# Altium footprint library Qbot1.PcbLib: 27 footprints (part 2 of 2)
Each footprint in its own frame and in the unit in brackets; x right, y up, seen from the top. Pads: shape width x height; smd on the part's side, far side on the other; paste and mask are expansions set on the pad; w line width, h text height; cw(c..) or ccw(c..) is an arc to the next point about the centre after c.
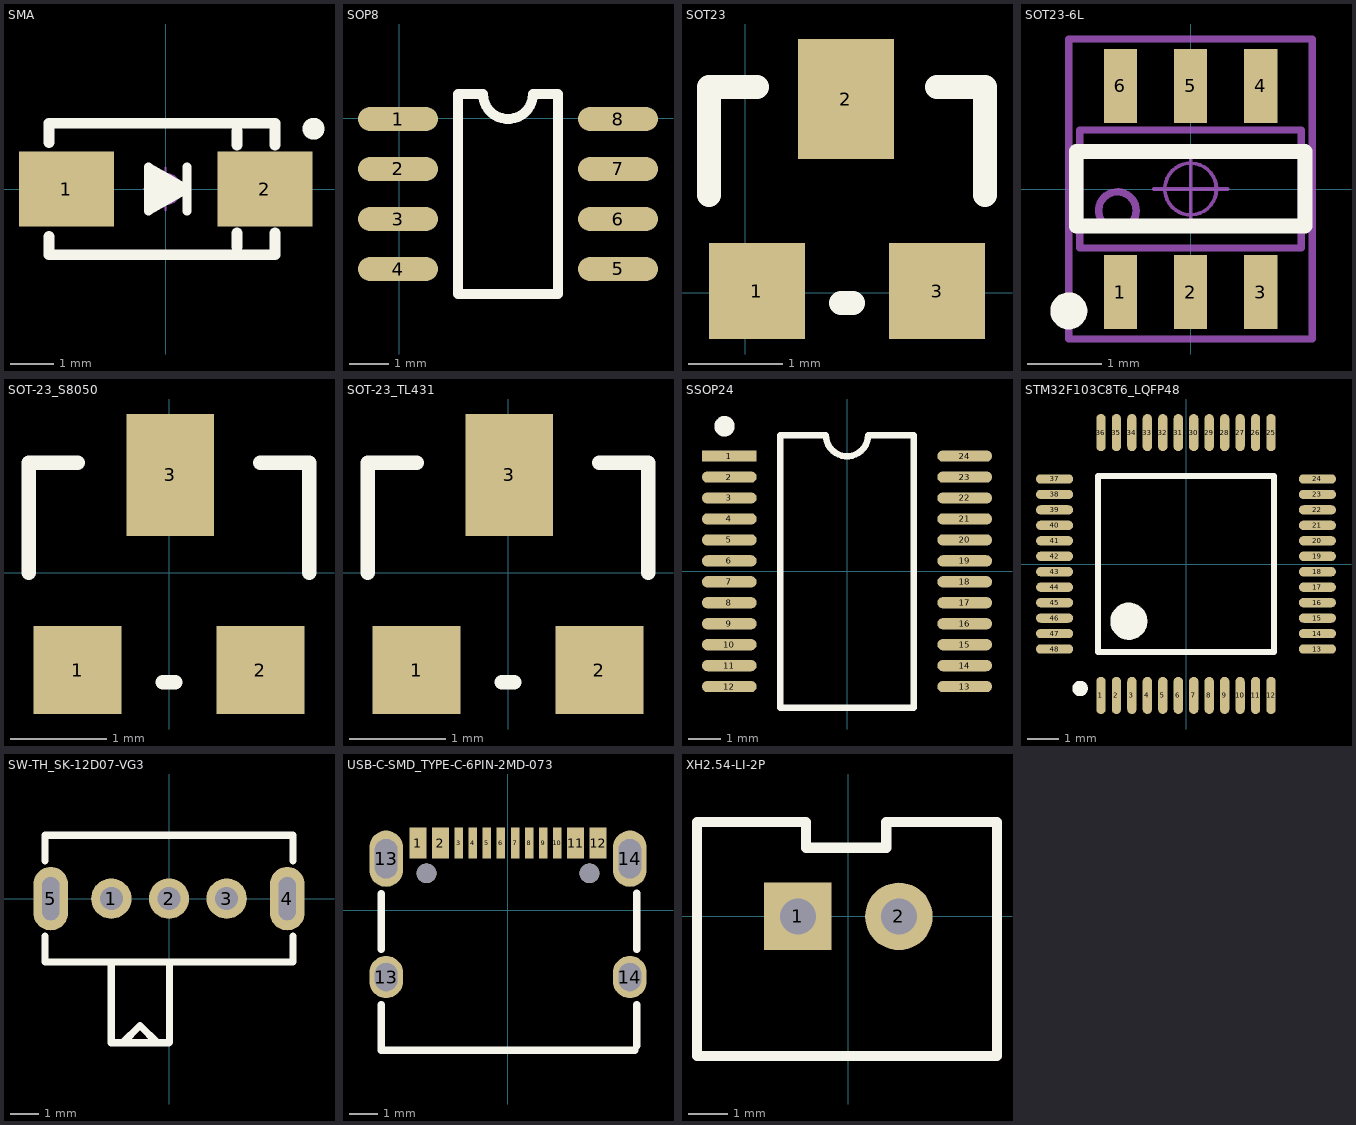
[diagram p1: the footprints below, top view; thin cyan lines are the x and y axes]

## SMA [mm] "4.5x2.6*2.2mm（长宽高，不包括引脚）"
height 2.54
pads (2):
  rect 2.2x1.75 smd: 1(-2.3,0) 2(2.3,0)
Top Overlay:
  circle w0.254: c3.429,1.397 r0.127
  lines w0.203: 0.494,-0.508 0.494,0.508 ; -0.395,-0.508 0.494,0 -0.395,0.508 -0.395,-0.508
  lines w0.254: -2.7,-1.105 -2.7,-1.524 2.54,-1.524 2.54,-1.016 ; -2.7,1.08 -2.7,1.524 2.54,1.524 2.54,1.016 ; -0.33,0.305 0.305,0 -0.254,-0.305 -0.254,0.051 0.023,0 ; 1.651,-1.35 1.651,-1.016 ; 1.651,1.016 1.651,1.35
Mechanical 15:
  circle w0.05: c0,0 r0.35
  lines w0.05: -0.5,0 0.5,0 ; 0,-0.5 0,0.5
3D body "SMA.STEP": height 2.15, standoff 0.04, extent -2.528,-1.3 2.575,1.3

## SOP8 [mil] "（蒜米工坊）"
height 19.68
pads (8):
  oval 80x24 smd: 1(-1,-1) 2(-1,-51) 3(-1,-101) 4(-1,-151) 5(219,-151) 6(219,-101) 7(219,-51) 8(219,-1)
Top Overlay:
  lines w10: 59,-176 159,-176 159,24 134,24 cw(c109,24) 84,24 59,24 59,-176
3D body "SOP8.STEP": height 62.99, standoff 0, extent -3.93,-173.82 233.94,23.82

## SOT23 [mil]
height 19.68
pads (3):
  rect 40x40 smd: 1(4.88,0.63) 3(79.88,0.63)
  rect 40x50 smd: 2(41.88,80.63)
Top Overlay:
  lines w10: -15.12,40.63 -15.12,85.63 4.88,85.63 ; 39.88,-4.37 44.88,-4.37 ; 79.88,85.63 99.88,85.63 99.88,40.63
3D body "SOT-23-3.STEP": height 47.24, standoff 0, extent -14.87,-11.02 99.3,99.22

## SOT23-6L [mm] "3x1.6x1.1mm(长宽高)"
height 1.45
pads (6):
  rect 0.45x1 smd: 1(-0.95,-1.397) 2(0,-1.397) 3(0.95,-1.397) 4(0.95,1.397) 5(0,1.397) 6(-0.95,1.397)
Top Overlay:
  circle w0.25: c-1.65,-1.651 r0.125
  lines w0.2: -1.55,-0.5 1.55,-0.5 1.55,0.508 -1.55,0.508 -1.55,-0.5
Mechanical 13:
  circle w0.1: c-0.992,-0.292 r0.254
  lines w0.1: -1.5,-0.8 -1.5,0.8 1.5,0.8 1.5,-0.8 -1.5,-0.8
Mechanical 15:
  circle w0.05: c0,0 r0.35
  lines w0.05: -0.5,0 0.5,0 ; 0,-0.5 0,0.5
  lines w0.1: -1.65,-2.032 -1.65,2.032 1.65,2.032 1.65,-2.032 -1.65,-2.032
3D body "SOT23-6.STEP": height 1.15, standoff -0.03, extent -1.5,-1.404 1.5,1.403

## SOT-23_S8050 [mil]
height 19.68
pads (3):
  rect 36x36 smd: 1(-37.5,-40) 2(37.5,-40)
  rect 36x50 smd: 3(0.5,40)
Top Overlay:
  lines w6: -57.5,0 -57.5,45 -37.5,45 ; -2.5,-45 2.5,-45 ; 37.5,45 57.5,45 57.5,0
3D body "sot23-s8050.stp": height 39.37, standoff 0, extent -57.08,-41.33 57.1,41.35

## SOT-23_TL431 [mil]
height 19.68
pads (3):
  rect 36x36 smd: 1(-37.5,-40) 2(37.5,-40)
  rect 36x50 smd: 3(0.5,40)
Top Overlay:
  lines w6: -57.5,0 -57.5,45 -37.5,45 ; -2.5,-45 2.5,-45 ; 37.5,45 57.5,45 57.5,0
3D body "sot23-tl431.stp": height 39.37, standoff 0, extent -57.08,-41.33 57.1,41.35

## SSOP24 [mm] "8.3*7.8*1.6（蒜米工坊）"
height 0.5
pads (24):
  rect 1.7x0.35 smd: 1(-3.65,3.575)
  oval 1.7x0.35 smd: 2(-3.65,2.925) 3(-3.65,2.275) 4(-3.65,1.625) 5(-3.65,0.975) 6(-3.65,0.325) 7(-3.65,-0.325) 8(-3.65,-0.975) 9(-3.65,-1.625) 10(-3.65,-2.275) 11(-3.65,-2.925) 12(-3.65,-3.575) 13(3.65,-3.575) 14(3.65,-2.925) 15(3.65,-2.275) 16(3.65,-1.625) 17(3.65,-0.975) 18(3.65,-0.325) 19(3.65,0.325) 20(3.65,0.975) 21(3.65,1.625) 22(3.65,2.275) 23(3.65,2.925) 24(3.65,3.575)
Top Overlay:
  circle w0.381: c-3.8,4.5 r0.127
  lines w0.2: -2.065,-4.225 2.065,-4.225 2.065,4.225 0.655,4.225 cw(c0,4.225) -0.655,4.225 -2.065,4.225 -2.065,-4.225
3D body "SSOP24.STEP": height 1.65, standoff -0.03, extent -3.852,-4.15 3.852,4.15

## STM32F103C8T6_LQFP48 [mm]
height 2
pads (48):
  oval 0.3x1.2 smd: 1(-2.75,-4.25) 2(-2.25,-4.25) 3(-1.75,-4.25) 4(-1.25,-4.25) 5(-0.75,-4.25) 6(-0.25,-4.25) 7(0.25,-4.25) 8(0.75,-4.25) 9(1.25,-4.25) 10(1.75,-4.25) 11(2.25,-4.25) 12(2.75,-4.25) 25(2.75,4.25) 26(2.25,4.25) 27(1.75,4.25) 28(1.25,4.25) 29(0.75,4.25) 30(0.25,4.25) 31(-0.25,4.25) 32(-0.75,4.25) 33(-1.25,4.25) 34(-1.75,4.25) 35(-2.25,4.25) 36(-2.75,4.25)
  oval 1.2x0.3 smd: 13(4.25,-2.75) 14(4.25,-2.25) 15(4.25,-1.75) 16(4.25,-1.25) 17(4.25,-0.75) 18(4.25,-0.25) 19(4.25,0.25) 20(4.25,0.75) 21(4.25,1.25) 22(4.25,1.75) 23(4.25,2.25) 24(4.25,2.75) 37(-4.25,2.75) 38(-4.25,2.25) 39(-4.25,1.75) 40(-4.25,1.25) 41(-4.25,0.75) 42(-4.25,0.25) 43(-4.25,-0.25) 44(-4.25,-0.75) 45(-4.25,-1.25) 46(-4.25,-1.75) 47(-4.25,-2.25) 48(-4.25,-2.75)
Top Overlay:
  circle w0.6: c-1.85,-1.85 r0.3
  circle w0.25: c-3.425,-4.025 r0.125
  lines w0.2: -2.85,-2.85 -2.85,2.85 2.85,2.85 2.85,-2.85 -2.85,-2.85
3D body "STM32F103C8T6_LQFP48.STEP": height 1.36, standoff 0, extent -4.4,-4.38 4.4,4.42

## SW-TH_SK-12D07-VG3 [mm]
height 0.5
pads (5):
  round 1.4 hole 0.8: 1(-2,0) 2(0,0) 3(2,0)
  oval 1.2x2.2 hole 0.6 slot 1.5 at 90 deg: 4(4.1,0) 5(-4.1,0)
Top Overlay:
  lines w0.254: -4.3,-1.307 -4.3,-2.2 4.3,-2.2 4.3,-1.307 ; -4.3,1.307 -4.3,2.2 4.3,2.2 4.3,1.307 ; -2,-2.2 -2,-4 -2,-5 0,-5 0.015,-4.985 0.015,-2.2 ; -1.605,-5 -1.005,-4.4 -0.405,-5

## USB-C-SMD_TYPE-C-6PIN-2MD-073 [mm]
height 0.5
pads (18):
  rect 0.6x1.1 smd: 1(-3.2,2.375) 2(-2.4,2.375) 11(2.4,2.375) 12(3.2,2.375)
  rect 0.3x1.1 smd: 3(-1.75,2.375) 4(-1.25,2.375) 5(-0.75,2.375) 6(-0.25,2.375) 7(0.25,2.375) 8(0.75,2.375) 9(1.25,2.375) 10(1.75,2.375)
  oval 1.2x1.5 hole 0.8 slot 1 at 90 deg: 13(-4.325,-2.375) 14(4.325,-2.375)
  oval 1.2x2 hole 0.8 slot 1.4 at 90 deg: 13(-4.325,1.825) 14(4.325,1.825)
  round 0.7 hole 0.7 unplated: ""(-2.89,1.305) ""(2.89,1.305)
Top Overlay:
  lines w0.254: -4.5,-3.356 -4.5,-4.975 4.5,-4.975 ; -4.5,-1.394 -4.5,0.594 ; 4.572,-4.826 4.572,-3.353 ; 4.572,-1.397 4.572,0.597
Top Paste:
  region: -4.925,2.225 -4.925,2.344 -4.834,2.565 -4.665,2.734 -4.444,2.825 -4.206,2.825 -3.985,2.734 -3.816,2.565 -3.725,2.344 -3.725,2.225 -3.725,1.425 -3.725,1.306 -3.816,1.085 -3.985,0.916 -4.206,0.825 -4.444,0.825 -4.665,0.916 -4.834,1.085 -4.925,1.306 -4.925,1.425
  region: 3.725,2.225 3.725,2.344 3.816,2.565 3.985,2.734 4.206,2.825 4.444,2.825 4.665,2.734 4.834,2.565 4.925,2.344 4.925,2.225 4.925,1.425 4.925,1.306 4.834,1.085 4.665,0.916 4.444,0.825 4.206,0.825 3.985,0.916 3.816,1.085 3.725,1.306 3.725,1.425
  region: -4.925,-2.225 -4.925,-2.106 -4.834,-1.885 -4.665,-1.716 -4.444,-1.625 -4.206,-1.625 -3.985,-1.716 -3.816,-1.885 -3.725,-2.106 -3.725,-2.225 -3.725,-2.525 -3.725,-2.644 -3.816,-2.865 -3.985,-3.034 -4.206,-3.125 -4.444,-3.125 -4.665,-3.034 -4.834,-2.865 -4.925,-2.644 -4.925,-2.525
  region: 3.725,-2.225 3.725,-2.106 3.816,-1.885 3.985,-1.716 4.206,-1.625 4.444,-1.625 4.665,-1.716 4.834,-1.885 4.925,-2.106 4.925,-2.225 4.925,-2.525 4.925,-2.644 4.834,-2.865 4.665,-3.034 4.444,-3.125 4.206,-3.125 3.985,-3.034 3.816,-2.865 3.725,-2.644 3.725,-2.525
  region: 2.9,2.925 3.5,2.925 3.5,1.825 2.9,1.825
  region: 2.1,2.925 2.7,2.925 2.7,1.825 2.1,1.825
  region: 1.6,2.925 1.9,2.925 1.9,1.825 1.6,1.825
  region: 1.1,2.925 1.4,2.925 1.4,1.825 1.1,1.825
  region: 0.6,2.925 0.9,2.925 0.9,1.825 0.6,1.825
  region: 0.1,2.925 0.4,2.925 0.4,1.825 0.1,1.825
  region: -0.4,2.925 -0.1,2.925 -0.1,1.825 -0.4,1.825
  region: -0.9,2.925 -0.6,2.925 -0.6,1.825 -0.9,1.825
  region: -1.4,2.925 -1.1,2.925 -1.1,1.825 -1.4,1.825
  region: -1.9,2.925 -1.6,2.925 -1.6,1.825 -1.9,1.825
  region: -2.7,2.925 -2.1,2.925 -2.1,1.825 -2.7,1.825
  region: -3.5,2.925 -2.9,2.925 -2.9,1.825 -3.5,1.825
Mechanical 15:
  circle w0.25: c-2.89,1.305 r0.125
  circle w0.25: c2.89,1.305 r0.125

## XH2.54-LI-2P [mm] "接插件，2P"
height 0.5
pads (2):
  rect 1.7x1.7 hole 0.9: 1(-1.27,0)
  round 1.7 hole 0.9: 2(1.27,0)
Top Overlay:
  lines w0.254: -3.807,-3.505 -3.807,2.37 -1.067,2.37 -1.067,1.727 0.953,1.727 0.953,2.37 2.954,2.37 3.736,2.37 3.736,-3.505 -3.807,-3.505
3D body "XH2.54-2P.STEP": height 7.05, standoff -2.45, extent -3.77,-3.3 3.77,2.4